# Altium schematic symbol library PC817C.SchLib: 1 symbol
Pins are listed as number, name and electrical type; pins without a type are passive.

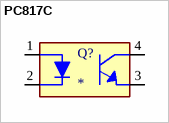
[diagram p0: symbol PC817C]

## PC817C
designator Q?
High Density Mounting Type Photocoupler; MF: {'manufacturer': u'Sharp Corporation'}; MP: PC817C; Package: None; Price: None; Value: *; Availability: Unavailable
footprint DIP762W50P254L650H458Q4B
pins: 1, 2, 3, 4